# Altium footprint library MCU_Module.PcbLib: 14 footprints
Each footprint in its own frame and in the unit in brackets; x right, y up, seen from the top. Pads: shape width x height; smd on the part's side, far side on the other; paste and mask are expansions set on the pad; w line width, h text height; cw(c..) or ccw(c..) is an arc to the next point about the centre after c.
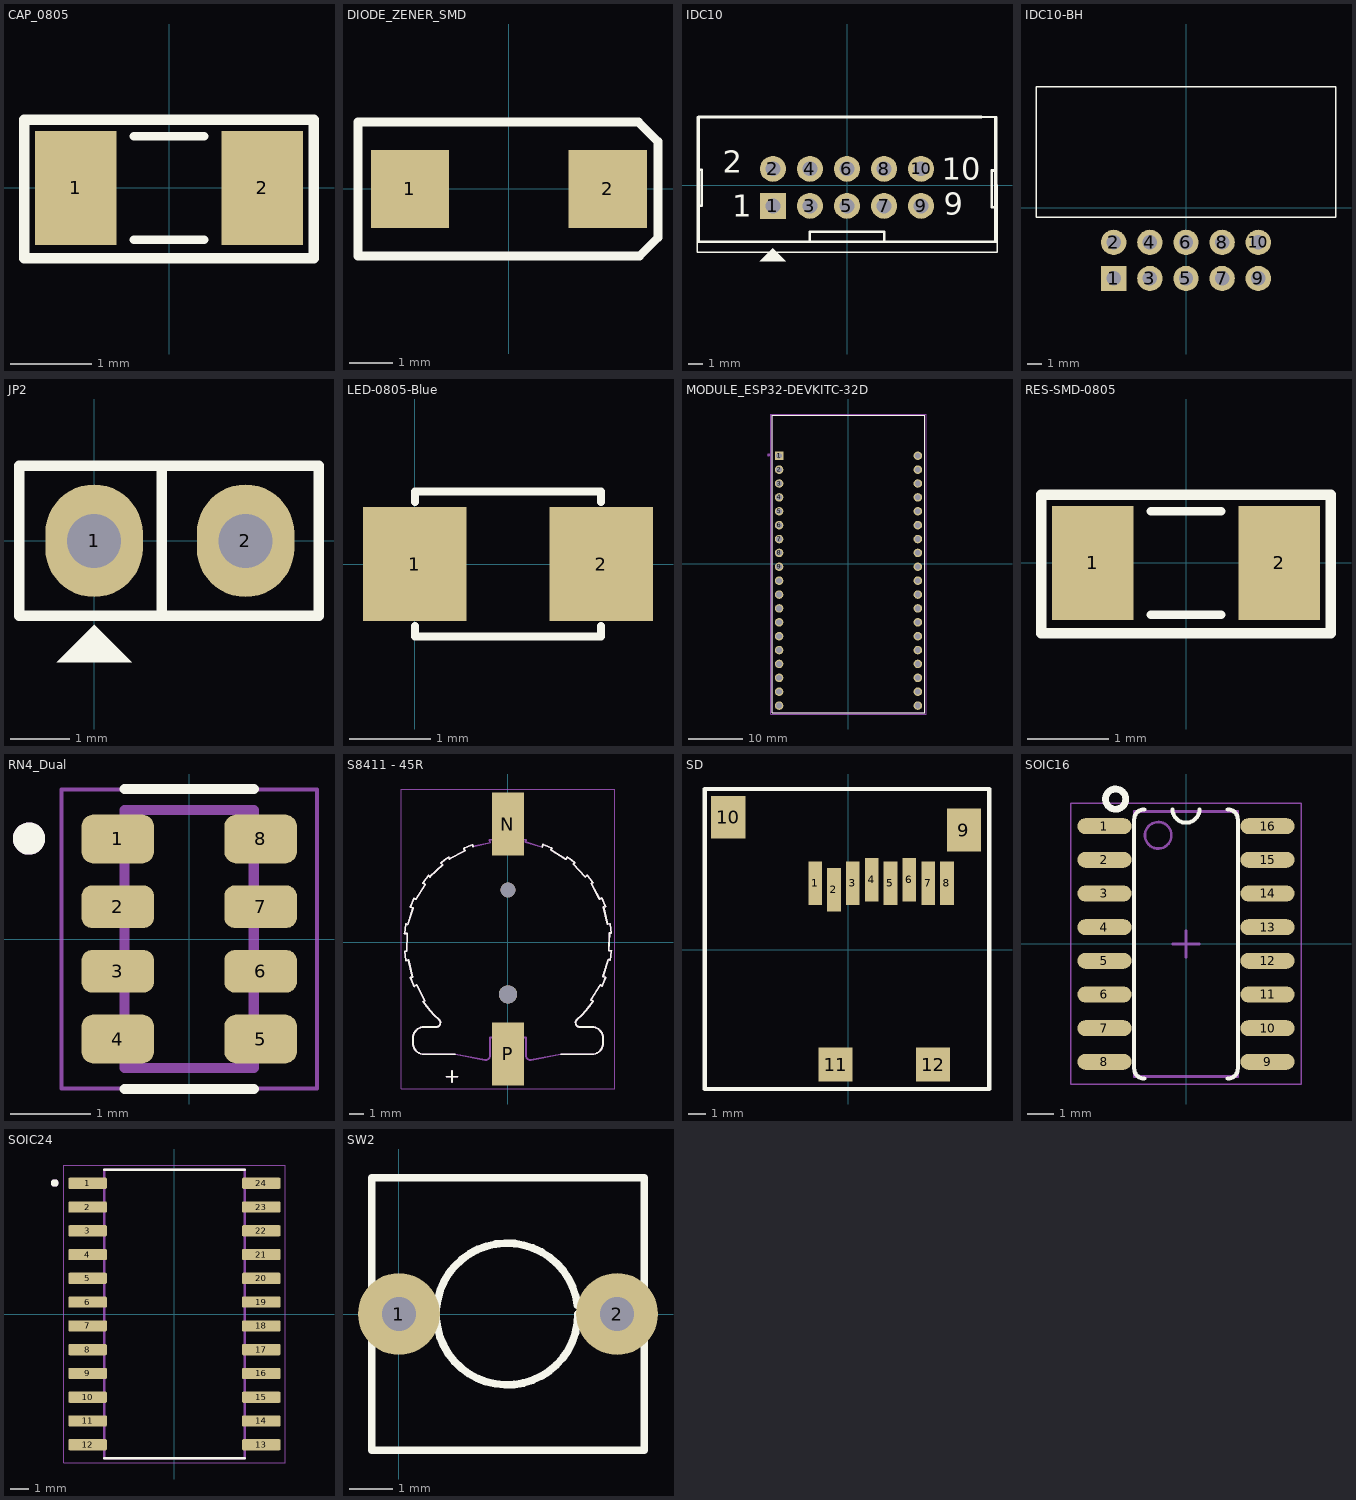
[diagram p0: the footprints below, top view; thin cyan lines are the x and y axes]

## CAP_0805 [mil]
pads (2):
  rect 39.37x55 smd: 1(-45,0) 2(45,0)
Top Overlay:
  lines w4: -17,-25 17,-25 ; -17,25 17,25
  lines w5: -70,-34 70,-34 70,33 -70,33 -70,-34
3D body "SW3dPS-smt_resistor_packages.STEP": height 24.02, standoff -0.39, extent -39.76,-25 39.77,25

## DIODE_ZENER_SMD [mil]
pads (2):
  rect 70x70 smd: 1(-88.58,0) 2(88.58,0)
Top Overlay:
  lines w7.87: -135,-60 -135,60 116,60 133.54,42.46 133.54,0 133.54,-43.46 117,-60 -135,-60
3D body "User Library-smd diode 1206.STEP": height 56.54, standoff -0.54, extent -68.9,-28.55 68.89,28.54

## IDC10 [mil]
pads (10):
  rect 70x70 hole 40: 1(-200,-55)
  round 70 hole 40: 2(-200,45) 3(-100,-55) 4(-100,45) 5(0,-55) 6(0,45) 7(100,-55) 8(100,45) 9(200,-55) 10(200,45)
Top Overlay:
  region: -200,-170 -235,-205 -165,-205
  lines w4: -405,-180 405,-180 405,186 -405,186 -405,-180
  lines w5: 362.79,185 400,185 400,140 401,140
  lines w7: -400.79,-55.98 -399.8,-55 -391.93,-55 -391.93,42.44 -400.79,42.44 ; -100.59,-151 -100.59,-125 100.2,-125 100.2,-152 ; 398.56,-151.44 401,-149 ; 401,-59 391,-59 391,40.41 401,40.41 ; 402,-152.44 -400.79,-152.44 -400.79,185 ; -400.79,185 362.79,185 -400.79,185 ; 401,-149 401,146 401,-149
  text "1" at -309.25,-84.53 h60
  text "2" at -335,35 h60
  text "9" at 261,-79 h60
  text "10" at 256,16 h60
3D body "User Library-IDC-10M.STEP": height 366.14, standoff -122.05, extent -399.6,-178.23 399.61,180.04

## IDC10-BH [mil]
pads (10):
  rect 70x70 hole 40: 1(-200,-195)
  round 70 hole 40: 2(-200,-95) 3(-100,-195) 4(-100,-95) 5(0,-195) 6(0,-95) 7(100,-195) 8(100,-95) 9(200,-195) 10(200,-95)
Top Overlay:
  lines w4: -415,-25 -415,335 415,335 415,-25 -415,-25
3D body "User Library-IDC Socket Male 10pin Angled THT Goldplated 2_54mm.step": height 353.54, standoff -93.31, extent -412.2,-203.86 412.2,330

## JP2 [mil]
pads (2):
  oval 65x75 hole 36: 1(0,0) 2(101,0)
Top Overlay:
  region: 0,-56 -25,-81 25,-81
  lines w7: 45,-50 45,49 ; -50,-50 -50,50 150,50 150,-50 -50,-50
3D body "JP2.stp": height 323.44, standoff -117.51, extent -48.03,-50 148.03,48.43

## LED-0805-Blue [mil]
pads (2):
  rect 50x55 smd: 1(0,0) 2(90,0)
Top Overlay:
  lines w4: 0,-30 0,-35 90,-35 90,-30 ; 0,30 0,35 90,35 90,30
3D body "User Library-led_0805-blue.step": height 43.31, standoff 0, extent 5.24,-24.6 84.77,24.61

## MODULE_ESP32-DEVKITC-32D [mm]
pads (38):
  rect 1.56x1.56 hole 1.04: 1(-12.7,19.76)
  round 1.56 hole 1.04: 2(-12.7,17.22) 3(-12.7,14.68) 4(-12.7,12.14) 5(-12.7,9.6) 6(-12.7,7.06) 7(-12.7,4.52) 8(-12.7,1.98) 9(-12.7,-0.56) 10(-12.7,-3.1) 11(-12.7,-5.64) 12(-12.7,-8.18) 13(-12.7,-10.72) 14(-12.7,-13.26) 15(-12.7,-15.8) 16(-12.7,-18.34) 17(-12.7,-20.88) 18(-12.7,-23.42) 19(-12.7,-25.96) 20(12.7,19.76) 21(12.7,17.22) 22(12.7,14.68) 23(12.7,12.14) 24(12.7,9.6) 25(12.7,7.06) 26(12.7,4.52) 27(12.7,1.98) 28(12.7,-0.56) 29(12.7,-3.1) 30(12.7,-5.64) 31(12.7,-8.18) 32(12.7,-10.72) 33(12.7,-13.26) 34(12.7,-15.8) 35(12.7,-18.34) 36(12.7,-20.88) 37(12.7,-23.42) 38(12.7,-25.96)
Top Overlay:
  lines w0.127: -13.95,-27.25 -13.95,27.15 13.95,27.15 13.95,-27.25 -13.95,-27.25
Mechanical 13:
  circle w0.28: c-14.6,19.9 r0.14
  lines w0.127: -13.95,-27.25 13.95,-27.25 13.95,27.15 -13.95,27.15 -13.95,-27.25
Mechanical 15:
  lines w0.05: -14.2,-27.5 14.2,-27.5 14.2,27.4 -14.2,27.4 -14.2,-27.5
3D body "step_temp.STEP": height 8.25, standoff -4.44, extent -13.97,-27.9 13.97,27.2

## RES-SMD-0805 [mil]
pads (2):
  rect 39.37x55 smd: 1(-45,0) 2(45,0)
Top Overlay:
  lines w4: -17,-25 17,-25 ; -17,25 17,25
  lines w5: -70,-34 -70,33 70,33 70,-34 -70,-34
3D body "SW3dPS-0805 SMD Resistor.STEP": height 31.39, standoff 0.6, extent -39.36,-24.6 39.38,24.61

## RN4_Dual [mm]
pads (8):
  rrect50% 0.9x0.61 smd: 1(-0.885,1.24) 4(-0.885,-1.24) 5(0.885,-1.24) 8(0.885,1.24)
  rrect50% 0.9x0.53 smd: 2(-0.885,0.4) 3(-0.885,-0.4) 6(0.885,-0.4) 7(0.885,0.4)
Top Overlay:
  circle w0.2: c-1.985,1.245 r0.1
  lines w0.127: -0.8,-1.859 0.8,-1.859 ; -0.8,1.859 0.8,1.859
Mechanical 13:
  circle w0.2: c-1.985,1.245 r0.1
  lines w0.127: -0.8,-1.6 -0.8,1.6 0.8,1.6 0.8,-1.6 -0.8,-1.6
Mechanical 15:
  lines w0.05: -1.585,-1.85 1.585,-1.85 1.585,1.85 -1.585,1.85 -1.585,-1.85
3D body "step_temp.STEP": height 0.7, standoff 0, extent -0.8,-1.6 0.8,1.6

## S8411 - 45R [mm]
pads (4):
  rect 2.3x4.5 smd: N(0,8.425) P(0,-7.975)
  round 1.3 hole 1.3 unplated: ""(0,-3.725)
  round 1.05 hole 1.05 unplated: ""(0,3.725)
Top Overlay:
  lines w0.127: -7.374,0.615 -7.18,0.608 -7.229,-0.649 -7.372,-0.643 ; -7.372,-0.645 ccw(c0,0) -7.288,-1.285 ; -7.372,0.645 cw(c0,0) -7.288,1.285 ; -7.287,1.287 -7.15,1.245 -6.778,2.446 -6.964,2.503 ; -7.282,-1.315 -7.093,-1.272 -6.814,-2.498 -6.954,-2.53 ; -6.954,-2.531 ccw(c0,0) -6.707,-3.127 ; -6.954,2.531 cw(c0,0) -6.707,3.127 ; -6.706,3.13 -6.584,3.053 -5.914,4.117 -6.079,4.22 ; -6.694,-3.155 -6.522,-3.065 -5.936,-4.177 -6.062,-4.243 ; -6.062,-4.244 ccw(c0,0) -4.952,-5.499 ; -6.062,4.244 cw(c0,0) -5.669,4.757 ; -5.667,4.759 -5.57,4.654 -4.647,5.508 -4.779,5.65 ; -4.921,-5.527 cw(c-5.121,-5.75) -5.121,-6.05 -5.984,-6.05 ccw(c-5.984,-6.85) -6.784,-6.85 -6.784,-7.2 ccw(c-5.984,-7.2) -5.984,-8 -3.764,-8 ; -4.757,5.669 cw(c0,0) -4.244,6.062 ; -4.4,-9.6 -3.6,-9.6 ; -4.242,6.063 -4.175,5.937 -3.063,6.523 -3.154,6.694 ; -4,-10 -4,-9.2 ; -3.127,6.707 cw(c0,0) -2.531,6.954 ; -2.528,6.955 -2.497,6.816 ; 2.447,6.78 2.504,6.964 ; 2.531,6.954 cw(c0,0) 3.127,6.707 ; 3.13,6.705 3.054,6.586 4.118,5.916 4.221,6.078 ; 3.764,-8 5.984,-8 ccw(c5.984,-7.2) 6.784,-7.2 6.784,-6.85 ccw(c5.984,-6.85) 5.984,-6.05 5.121,-6.05 cw(c5.121,-5.75) 4.921,-5.527 ; 4.244,6.062 cw(c0,0) 4.757,5.669 ; 4.759,5.667 4.655,5.571 5.509,4.649 5.65,4.779 ; 4.952,-5.499 ccw(c0,0) 6.062,-4.244 ; 5.669,4.757 cw(c0,0) 6.062,4.244 ; 6.063,4.243 5.938,4.177 6.525,3.065 6.694,3.154 ; 6.079,-4.219 5.917,-4.117 6.587,-3.053 6.706,-3.128 ; 6.707,-3.127 ccw(c0,0) 6.954,-2.531 ; 6.707,3.127 cw(c0,0) 6.954,2.531 ; 6.954,2.529 6.817,2.498 7.095,1.272 7.282,1.314 ; 6.964,-2.502 6.781,-2.446 7.153,-1.245 7.287,-1.286 ; 7.288,-1.285 ccw(c0,0) 7.372,-0.645 ; 7.288,1.285 cw(c0,0) 7.372,0.645 ; 7.372,0.643 7.231,0.649 7.183,-0.608 7.374,-0.615
Mechanical 13:
  lines w0.127: -7.374,0.615 -7.18,0.608 -7.229,-0.649 -7.372,-0.643 ; -7.372,-0.645 ccw(c0,0) -7.288,-1.285 ; -7.372,0.645 cw(c0,0) -7.288,1.285 ; -7.287,1.287 -7.15,1.245 -6.778,2.446 -6.964,2.503 ; -7.282,-1.315 -7.093,-1.272 -6.814,-2.498 -6.954,-2.53 ; -6.954,-2.531 ccw(c0,0) -6.707,-3.127 ; -6.954,2.531 cw(c0,0) -6.707,3.127 ; -6.706,3.13 -6.584,3.053 -5.914,4.117 -6.079,4.22 ; -6.694,-3.155 -6.522,-3.065 -5.936,-4.177 -6.062,-4.243 ; -6.062,-4.244 ccw(c0,0) -4.952,-5.499 ; -6.062,4.244 cw(c0,0) -5.669,4.757 ; -5.667,4.759 -5.57,4.654 -4.647,5.508 -4.779,5.65 ; -4.921,-5.527 cw(c-5.121,-5.75) -5.121,-6.05 -5.984,-6.05 ccw(c-5.984,-6.85) -6.784,-6.85 -6.784,-7.2 ccw(c-5.984,-7.2) -5.984,-8 -3.764,-8 -1.637,-8.4 ; -4.757,5.669 cw(c0,0) -4.244,6.062 ; -4.4,-9.6 -3.6,-9.6 ; -4.242,6.063 -4.175,5.937 -3.063,6.523 -3.154,6.694 ; -4,-10 -4,-9.2 ; -3.127,6.707 cw(c0,0) -2.531,6.954 ; -2.528,6.955 -2.497,6.816 -1.271,7.094 -1.313,7.283 ; -1.639,-8.4 ccw(c-1.582,-8.105) -1.282,-8.105 -1.282,-6.81 1.282,-6.81 1.282,-8.105 ccw(c1.582,-8.105) 1.639,-8.4 ; -1.285,7.288 cw(c0,0) -0.902,7.345 ; -0.9,7.33 0.9,7.33 ; 0.902,7.345 cw(c0,0) 1.285,7.288 ; 1.288,7.287 1.246,7.151 2.447,6.78 2.504,6.964 ; 1.637,-8.4 3.764,-8 5.984,-8 ccw(c5.984,-7.2) 6.784,-7.2 6.784,-6.85 ccw(c5.984,-6.85) 5.984,-6.05 5.121,-6.05 cw(c5.121,-5.75) 4.921,-5.527 ; 2.531,6.954 cw(c0,0) 3.127,6.707 ; 3.13,6.705 3.054,6.586 4.118,5.916 4.221,6.078 ; 4.244,6.062 cw(c0,0) 4.757,5.669 ; 4.759,5.667 4.655,5.571 5.509,4.649 5.65,4.779 ; 4.952,-5.499 ccw(c0,0) 6.062,-4.244 ; 5.669,4.757 cw(c0,0) 6.062,4.244 ; 6.063,4.243 5.938,4.177 6.525,3.065 6.694,3.154 ; 6.079,-4.219 5.917,-4.117 6.587,-3.053 6.706,-3.128 ; 6.707,-3.127 ccw(c0,0) 6.954,-2.531 ; 6.707,3.127 cw(c0,0) 6.954,2.531 ; 6.954,2.529 6.817,2.498 7.095,1.272 7.282,1.314 ; 6.964,-2.502 6.781,-2.446 7.153,-1.245 7.287,-1.286 ; 7.288,-1.285 ccw(c0,0) 7.372,-0.645 ; 7.288,1.285 cw(c0,0) 7.372,0.645 ; 7.372,0.643 7.231,0.649 7.183,-0.608 7.374,-0.615
Mechanical 15:
  lines w0.05: -7.624,-10.475 -7.624,10.925 7.624,10.925 7.624,-10.475 -7.624,-10.475
3D body "step_temp.STEP": height 4.25, standoff -0.95, extent -7.372,-9.6 7.372,9.6

## SD [mm]
pads (12):
  rect 0.8x2.54 smd: 1(-1.925,3.9) 2(-0.825,3.5) 3(0.275,3.9) 4(1.375,4.1) 5(2.475,3.9) 6(3.575,4.1) 7(4.675,3.9) 8(5.775,3.9)
  rect 2x2.5 smd: 9(6.765,7) 10(-7,7.75)
  rect 2x2 smd: 11(-0.735,-6.7) 12(4.965,-6.7)
Top Overlay:
  lines w0.254: -8.382,-8.128 8.255,-8.128 8.255,9.398 -8.382,9.398 -8.382,-8.128
3D body: height 1.85, standoff 0, extent -7.025,-7.045 7.025,8.255

## SOIC16 [mm]
pads (16):
  oval 2.05x0.6 smd: 1(-3.075,4.445) 2(-3.075,3.175) 3(-3.075,1.905) 4(-3.075,0.635) 5(-3.075,-0.635) 6(-3.075,-1.905) 7(-3.075,-3.175) 8(-3.075,-4.445) 9(3.075,-4.445) 10(3.075,-3.175) 11(3.075,-1.905) 12(3.075,-0.635) 13(3.075,0.635) 14(3.075,1.905) 15(3.075,3.175) 16(3.075,4.445)
Top Overlay:
  circle w0.254: c-2.655,5.465 r0.381
  lines w0.152: -1.575,-5.08 cw(c-1.575,-4.699) -1.956,-4.699 -1.956,4.699 cw(c-1.575,4.699) -1.575,5.08 ; -0.508,5.08 ccw(c0,5.08) 0.508,5.08 ; 1.575,-5.08 ccw(c1.575,-4.699) 1.956,-4.699 1.956,4.699 ccw(c1.575,4.699) 1.575,5.08
Mechanical 13:
  circle w0.1: c-1.05,4.1 r0.5
  lines w0.1: -1.95,-5 1.95,-5 1.95,5 -1.95,5 -1.95,-5
Mechanical 15:
  lines w0.05: -4.35,-5.3 4.35,-5.3 4.35,5.3 -4.35,5.3 -4.35,-5.3
  lines w0.1: -0.5,0 0.5,0 ; 0,-0.5 0,0.5
3D body "SOIC16.step": height 1.75, standoff 0, extent -2.997,-5 2.997,5

## SOIC24 [mm]
pads (24):
  rrect25% 2.06x0.6 smd: 1(-4.64,6.985) 2(-4.64,5.715) 3(-4.64,4.445) 4(-4.64,3.175) 5(-4.64,1.905) 6(-4.64,0.635) 7(-4.64,-0.635) 8(-4.64,-1.905) 9(-4.64,-3.175) 10(-4.64,-4.445) 11(-4.64,-5.715) 12(-4.64,-6.985) 13(4.64,-6.985) 14(4.64,-5.715) 15(4.64,-4.445) 16(4.64,-3.175) 17(4.64,-1.905) 18(4.64,-0.635) 19(4.64,0.635) 20(4.64,1.905) 21(4.64,3.175) 22(4.64,4.445) 23(4.64,5.715) 24(4.64,6.985)
Top Overlay:
  circle w0.2: c-6.4,7 r0.1
  lines w0.127: -3.75,-7.7 3.75,-7.7 ; -3.75,7.7 3.75,7.7
Mechanical 13:
  circle w0.2: c-6.4,7 r0.1
  lines w0.127: -3.75,-7.7 3.75,-7.7 3.75,7.7 -3.75,7.7 -3.75,-7.7
Mechanical 15:
  lines w0.05: -5.92,-7.95 5.92,-7.95 5.92,7.95 -5.92,7.95 -5.92,-7.95
3D body "step_temp.STEP": height 2.65, standoff 0, extent -5.15,-7.7 5.15,7.7

## SW2 [mil]
pads (2):
  round 75 hole 31: 1(0,0) 2(200,0)
Top Overlay:
  lines w7: 163.64,8.26 ccw(c99.17,0) 164.17,0 ; -25,-125 -25,125 225,125 225,-125 -25,-125